# Altium footprint library TO-3.PcbLib: 1 footprints
Each footprint in its own frame and in the unit in brackets; x right, y up, seen from the top. Pads: shape width x height; smd on the part's side, far side on the other; paste and mask are expansions set on the pad; w line width, h text height; cw(c..) or ccw(c..) is an arc to the next point about the centre after c.
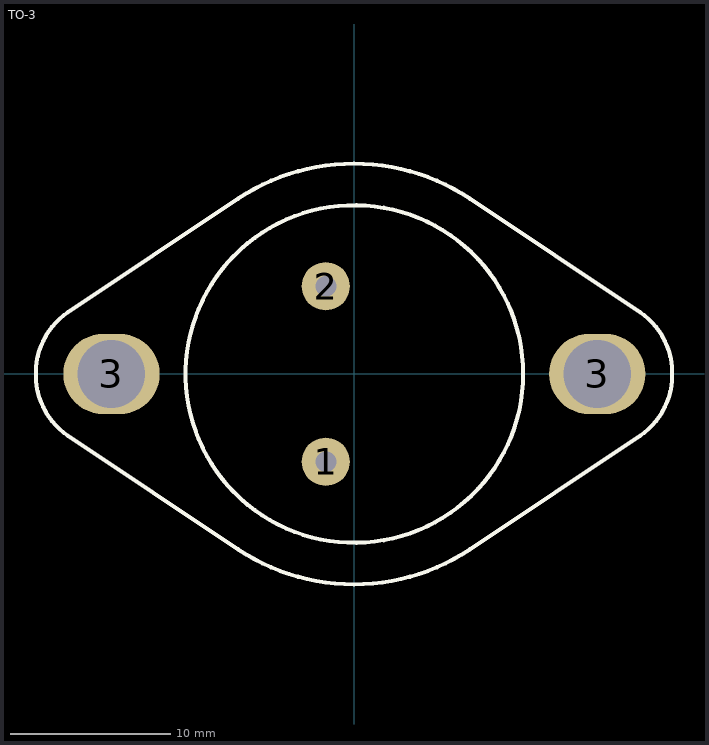
[diagram p0: the footprint, top view; thin cyan lines are the x and y axes]

## TO-3 [mm]
pads (4):
  round 3 hole 1.3: 1(-1.778,-5.461) 2(-1.778,5.461)
  oval 6x5 hole 4.2: 3(-15.113,0) 3(15.113,0)
Top Overlay:
  circle w0.254: c0,0 r10.5
  lines w0.254: -19.82,-0.051 ccw(c-15.22,-0.051) -17.773,-3.877 -7.246,-10.902 ccw(c-0.03,-0.089) -0.03,-13.089 -0.02,-13.089 ccw(c-0.02,-0.089) 7.196,-10.902 17.723,-3.877 ccw(c15.17,-0.051) 19.77,-0.051 19.77,0.051 ccw(c15.17,0.051) 17.723,3.877 7.196,10.902 ccw(c-0.02,0.089) -0.02,13.089 -0.03,13.089 ccw(c-0.03,0.089) -7.246,10.902 -17.773,3.877 ccw(c-15.22,0.051) -19.82,0.051 -19.82,-0.051
3D body: height 8.5, standoff -12, extent -19.757,-13.089 19.833,13.089